# EAGLE library part BEAGLEBONE_BLACK_CAPE (library arvp_BeagleBoneBlack_Custom_Cape)
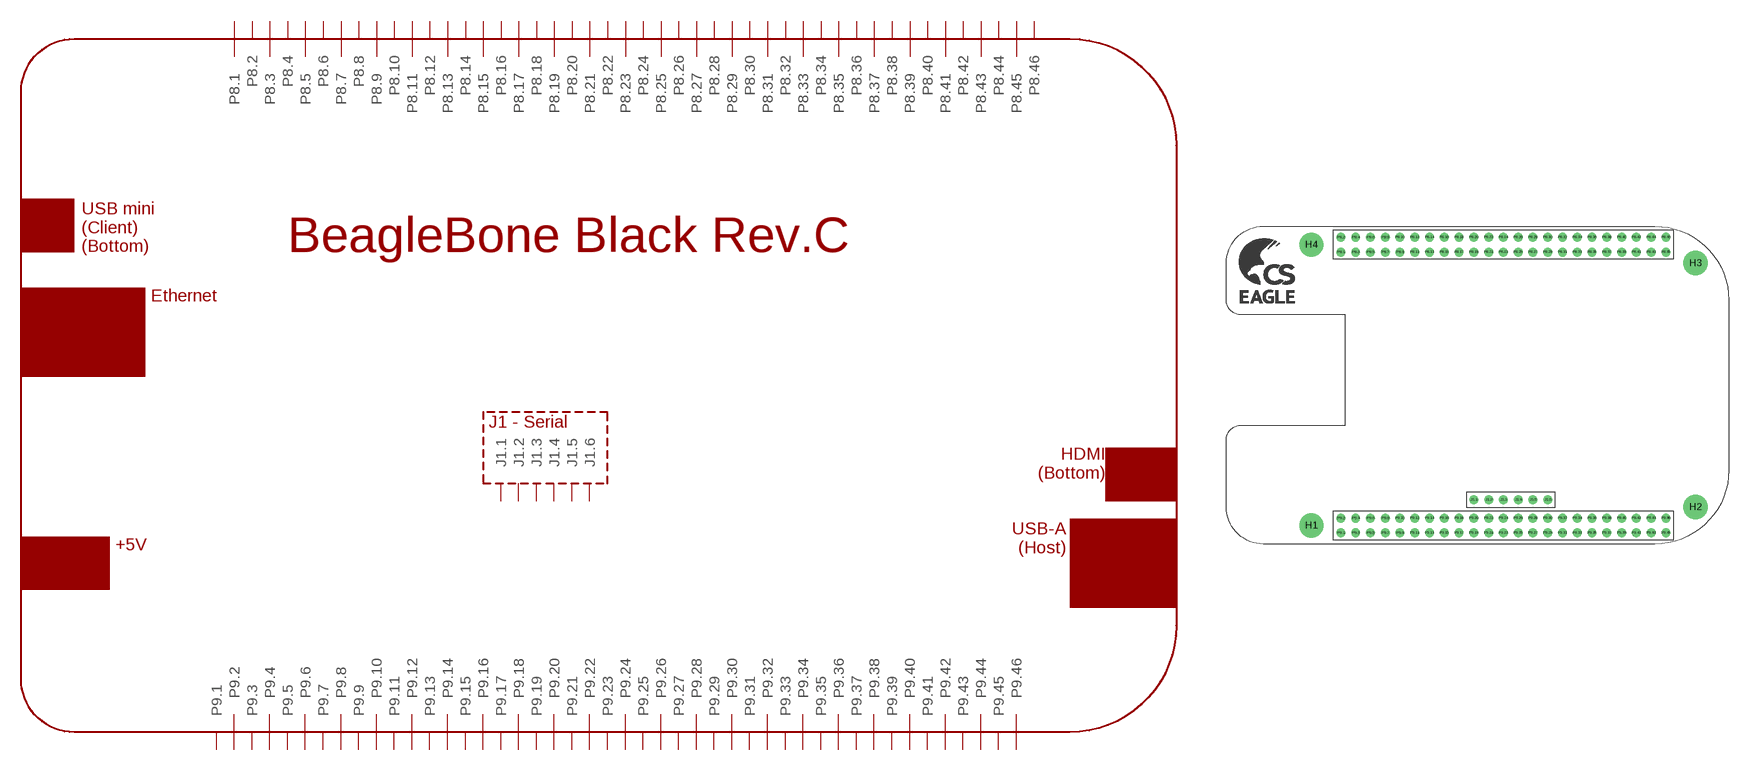
[diagram p1: symbol with the pads of BEAGLEBONE_BLACK_CAPE; footprint BEAGLEBONE_BLACK_CAPE]

Designator prefix PCB

## BEAGLEBONE_BLACK_CAPE  [BEAGLEBONE_BLACK_CAPE]
J1.1  J1.1
J1.2  J1.2
J1.3  J1.3
J1.4  J1.4
J1.5  J1.5
J1.6  J1.6
P8.1  P8.1
P8.2  P8.2
P8.3  P8.3
P8.4  P8.4
P8.5  P8.5
P8.6  P8.6
P8.7  P8.7
P8.8  P8.8
P8.9  P8.9
P8.10  P8.10
P8.11  P8.11
P8.12  P8.12
P8.13  P8.13
P8.14  P8.14
P8.15  P8.15
P8.16  P8.16
P8.17  P8.17
P8.18  P8.18
P8.19  P8.19
P8.20  P8.20
P8.21  P8.21
P8.22  P8.22
P8.23  P8.23
P8.24  P8.24
P8.25  P8.25
P8.26  P8.26
P8.27  P8.27
P8.28  P8.28
P8.29  P8.29
P8.30  P8.30
P8.31  P8.31
P8.32  P8.32
P8.33  P8.33
P8.34  P8.34
P8.35  P8.35
P8.36  P8.36
P8.37  P8.37
P8.38  P8.38
P8.39  P8.39
P8.40  P8.40
P8.41  P8.41
P8.42  P8.42
P8.43  P8.43
P8.44  P8.44
P8.45  P8.45
P8.46  P8.46
P9.1  P9.1
P9.2  P9.2
P9.3  P9.3
P9.4  P9.4
P9.5  P9.5
P9.6  P9.6
P9.7  P9.7
P9.8  P9.8
P9.9  P9.9
P9.10  P9.10
P9.11  P9.11
P9.12  P9.12
P9.13  P9.13
P9.14  P9.14
P9.15  P9.15
P9.16  P9.16
P9.17  P9.17
P9.18  P9.18
P9.19  P9.19
P9.20  P9.20
P9.21  P9.21
P9.22  P9.22
P9.23  P9.23
P9.24  P9.24
P9.25  P9.25
P9.26  P9.26
P9.27  P9.27
P9.28  P9.28
P9.29  P9.29
P9.30  P9.30
P9.31  P9.31
P9.32  P9.32
P9.33  P9.33
P9.34  P9.34
P9.35  P9.35
P9.36  P9.36
P9.37  P9.37
P9.38  P9.38
P9.39  P9.39
P9.40  P9.40
P9.41  P9.41
P9.42  P9.42
P9.43  P9.43
P9.44  P9.44
P9.45  P9.45
P9.46  P9.46

## Footprint BEAGLEBONE_BLACK_CAPE (pad centres in mm)
Package for BeagleBone Black Rev. C board.
drill 3.175: H1 14.605,3.175; H2 80.645,6.35; H3 80.645,48.26; H4 14.605,51.435
drill 1.016: J1.1 42.545,7.62; J1.2 45.085,7.62; J1.3 47.625,7.62; J1.4 50.165,7.62; J1.5 52.705,7.62; J1.6 55.245,7.62; P8.1 19.685,50.165; P8.2 19.685,52.705; P8.3 22.225,50.165; P8.4 22.225,52.705; P8.5 24.765,50.165; P8.6 24.765,52.705; P8.7 27.305,50.165; P8.8 27.305,52.705; P8.9 29.845,50.165; P8.10 29.845,52.705; P8.11 32.385,50.165; P8.12 32.385,52.705; P8.13 34.925,50.165; P8.14 34.925,52.705; P8.15 37.465,50.165; P8.16 37.465,52.705; P8.17 40.005,50.165; P8.18 40.005,52.705; P8.19 42.545,50.165; P8.20 42.545,52.705; P8.21 45.085,50.165; P8.22 45.085,52.705; P8.23 47.625,50.165; P8.24 47.625,52.705; P8.25 50.165,50.165; P8.26 50.165,52.705; P8.27 52.705,50.165; P8.28 52.705,52.705; P8.29 55.245,50.165; P8.30 55.245,52.705; P8.31 57.785,50.165; P8.32 57.785,52.705; P8.33 60.325,50.165; P8.34 60.325,52.705; P8.35 62.865,50.165; P8.36 62.865,52.705; P8.37 65.405,50.165; P8.38 65.405,52.705; P8.39 67.945,50.165; P8.40 67.945,52.705; P8.41 70.485,50.165; P8.42 70.485,52.705; P8.43 73.025,50.165; P8.44 73.025,52.705; P8.45 75.565,50.165; P8.46 75.565,52.705; P9.1 19.685,1.905; P9.2 19.685,4.445; P9.3 22.225,1.905; P9.4 22.225,4.445; P9.5 24.765,1.905; P9.6 24.765,4.445; P9.7 27.305,1.905; P9.8 27.305,4.445; P9.9 29.845,1.905; P9.10 29.845,4.445; P9.11 32.385,1.905; P9.12 32.385,4.445; P9.13 34.925,1.905; P9.14 34.925,4.445; P9.15 37.465,1.905; P9.16 37.465,4.445; P9.17 40.005,1.905; P9.18 40.005,4.445; P9.19 42.545,1.905; P9.20 42.545,4.445; P9.21 45.085,1.905; P9.22 45.085,4.445; P9.23 47.625,1.905; P9.24 47.625,4.445; P9.25 50.165,1.905; P9.26 50.165,4.445; P9.27 52.705,1.905; P9.28 52.705,4.445; P9.29 55.245,1.905; P9.30 55.245,4.445; P9.31 57.785,1.905; P9.32 57.785,4.445; P9.33 60.325,1.905; P9.34 60.325,4.445; P9.35 62.865,1.905; P9.36 62.865,4.445; P9.37 65.405,1.905; P9.38 65.405,4.445; P9.39 67.945,1.905; P9.40 67.945,4.445; P9.41 70.485,1.905; P9.42 70.485,4.445; P9.43 73.025,1.905; P9.44 73.025,4.445; P9.45 75.565,1.905; P9.46 75.565,4.445